# EAGLE library part COZIR-LP (library COZIR-LP)
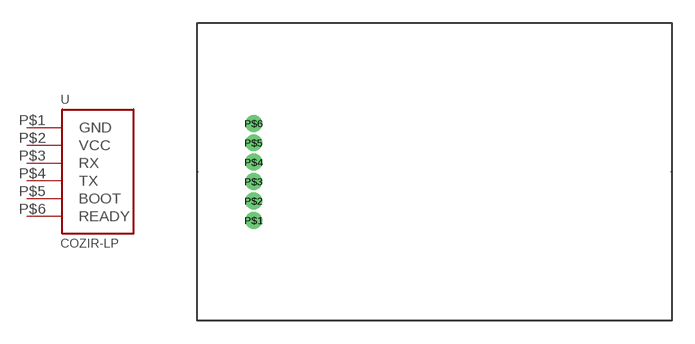
[diagram p0: symbol with the pads of COZIR-LP_1.27MM_6POS; footprint COZIR-LP_1.27MM_6POS]

Designator prefix -

## COZIR-LP  [COZIR-LP_1.27MM_6POS]
P$1  GND
P$2  VCC
P$3  RX
P$4  TX
P$5  BOOT
P$6  READY

## Footprint COZIR-LP_1.27MM_6POS (pad centres in mm)
drill 0.6 pad 1.016: P$1 3.67,6.57; P$2 3.67,7.84; P$3 3.67,9.11; P$4 3.67,10.38; P$5 3.67,11.65; P$6 3.67,12.92